# Altium schematic symbol library TCR2E.SchLib: 1 symbol
Pins are listed as number, name and electrical type; pins without a type are passive.

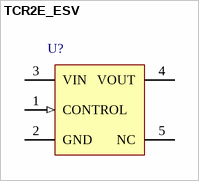
[diagram p0: symbol TCR2E_ESV]

## TCR2E_ESV
designator U?
pins: 1 CONTROL (in) "Device Address", 2 GND (power) "Device Address", 3 VIN (power) "Device Address", 4 VOUT (power) "Supply voltage", 5 NC "Ground"